# Altium schematic symbol library Resistor_Thermistor_1.Schlib: 1 symbol
Pins are listed as number, name and electrical type; pins without a type are passive.

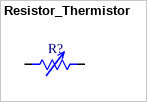
[diagram p0: symbol Resistor_Thermistor]

## Resistor_Thermistor
designator R?  (value not drawn)
R25: ?kohm; B: ?K
pins: 1, 2